# EAGLE library part PCM5102PW (library FarnellThings)
Audio Stereo DAC with 32-bit, 384kHz PCM Interface,TSSOP-20
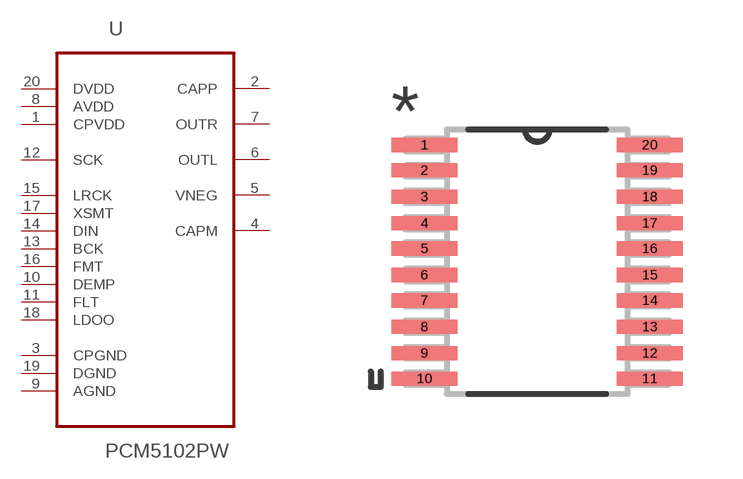
[diagram p2: symbol with the pads of SOP65P640X120-20N; footprint SOP65P640X120-20N]

Designator prefix U

## PCM5102PW (MPN: PCM5102PW; OC_FARNELL: 1903632; OC_NEWARK: 48T2173; PACKAGE: TSSOP-20; SUPPLIER: TEXAS INSTRUMENTS)  [SOP65P640X120-20N]
1  CPVDD  pas
2  CAPP  out
3  CPGND  pas
4  CAPM  out
5  VNEG  out
6  OUTL  out
7  OUTR  out
8  AVDD  pwr
9  AGND  pas
10  DEMP  in
11  FLT  in
12  SCK  in
13  BCK  in
14  DIN  in
15  LRCK  in
16  FMT  in
17  XSMT  in
18  LDOO  pas
19  DGND  pas
20  DVDD  pas

## Footprint SOP65P640X120-20N (pad centres in mm)
smd 1.651 x 0.356: 1 -2.819,2.921; 2 -2.819,2.286; 3 -2.819,1.626; 4 -2.819,0.965; 5 -2.819,0.33; 6 -2.819,-0.33; 7 -2.819,-0.965; 8 -2.819,-1.626; 9 -2.819,-2.286; 10 -2.819,-2.921; 11 2.819,-2.921; 12 2.819,-2.286; 13 2.819,-1.626; 14 2.819,-0.965; 15 2.819,-0.33; 16 2.819,0.33; 17 2.819,0.965; 18 2.819,1.626; 19 2.819,2.286; 20 2.819,2.921